# Altium footprint library 5177984-2.PcbLib: 1 footprints
Each footprint in its own frame and in the unit in brackets; x right, y up, seen from the top. Pads: shape width x height; smd on the part's side, far side on the other; paste and mask are expansions set on the pad; w line width, h text height; cw(c..) or ccw(c..) is an arc to the next point about the centre after c.
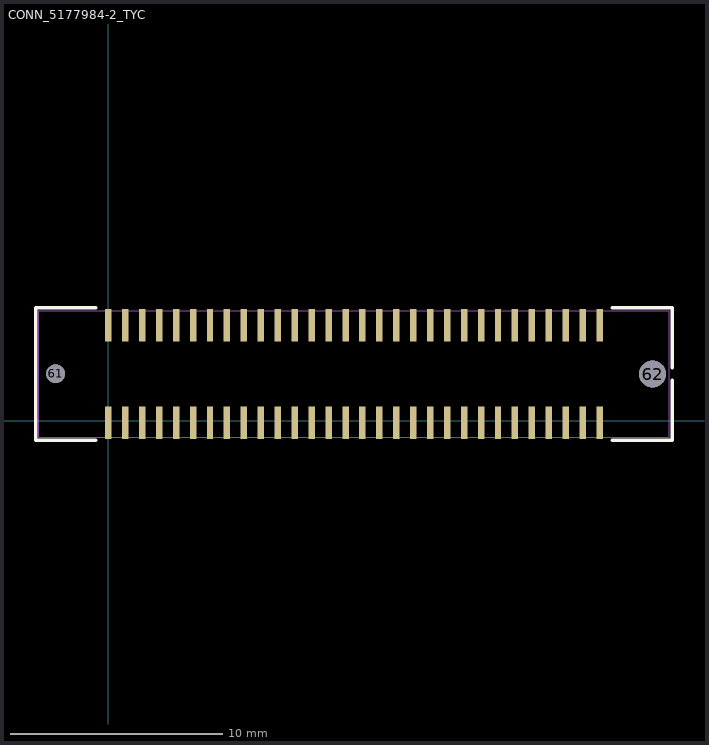
[diagram p0: the footprint, top view; thin cyan lines are the x and y axes]

## CONN_5177984-2_TYC [mil]
pads (62):
  rect 12x60 smd: 1(0,-3.94) 2(31.5,-3.94) 3(62.99,-3.94) 4(94.49,-3.94) 5(125.98,-3.94) 6(157.48,-3.94) 7(188.98,-3.94) 8(220.47,-3.94) 9(251.97,-3.94) 10(283.46,-3.94) 11(314.96,-3.94) 12(346.46,-3.94) 13(377.95,-3.94) 14(409.45,-3.94) 15(440.94,-3.94) 16(472.44,-3.94) 17(503.94,-3.94) 18(535.43,-3.94) 19(566.93,-3.94) 20(598.43,-3.94) 21(629.92,-3.94) 22(661.42,-3.94) 23(692.91,-3.94) 24(724.41,-3.94) 25(755.91,-3.94) 26(787.4,-3.94) 27(818.9,-3.94) 28(850.39,-3.94) 29(881.89,-3.94) 30(913.39,-3.94) 31(0,177.17) 32(31.5,177.17) 33(62.99,177.17) 34(94.49,177.17) 35(125.98,177.17) 36(157.48,177.17) 37(188.98,177.17) 38(220.47,177.17) 39(251.97,177.17) 40(283.46,177.17) 41(314.96,177.17) 42(346.46,177.17) 43(377.95,177.17) 44(409.45,177.17) 45(440.94,177.17) 46(472.44,177.17) 47(503.94,177.17) 48(535.43,177.17) 49(566.93,177.17) 50(598.43,177.17) 51(629.92,177.17) 52(661.42,177.17) 53(692.91,177.17) 54(724.41,177.17) 55(755.91,177.17) 56(787.4,177.17) 57(818.9,177.17) 58(850.39,177.17) 59(881.89,177.17) 60(913.39,177.17)
  round 35 hole 35 unplated mask+4: 61(-98,87)
  round 50 hole 50 unplated mask+4: 62(1011.69,86.61)
Top Overlay:
  lines w6: -23.6,-36.39 -134.81,-36.39 -134.81,209.61 -23.6,209.61 ; 936.99,-36.39 1048.19,-36.39 1048.19,75.69 ; 936.99,209.61 1048.19,209.61 1048.19,97.54
Mechanical 13:
  lines w1: -129.81,-31.39 -129.81,204.61 1043.19,204.61 1043.19,-31.39 -129.81,-31.39
3D body "c-5177984-2-a-3d.stp": height 182, standoff -18.79, extent -130,-31.11 1043.23,205.11